# EAGLE library part SD_CARD_HOLDER (library SD_Card_Holder)
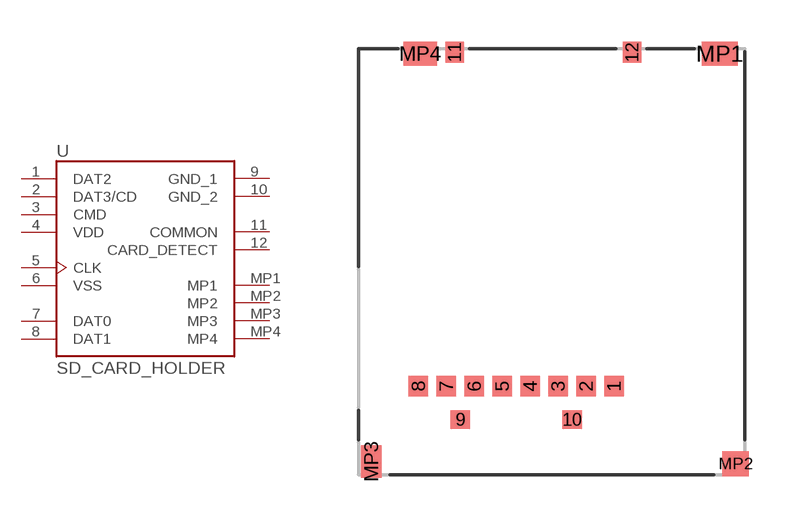
[diagram p0: symbol with the pads of SD_CARD_HOLDER; footprint SD_CARD_HOLDER]

Designator prefix -

## SD_CARD_HOLDER  [SD_CARD_HOLDER]
1  DAT2
2  DAT3/CD
3  CMD
4  VDD  pwr
5  CLK
6  VSS  pwr
7  DAT0
8  DAT1
9  GND_1  pwr
10  GND_2  pwr
11  COMMON
12  CARD_DETECT
MP1  MP1  pas
MP2  MP2
MP3  MP3
MP4  MP4

## Footprint SD_CARD_HOLDER (pad centres in mm)
smd 0.7 x 0.75: 1 3.495,-5.72; 2 2.495,-5.72; 3 1.495,-5.72; 4 0.495,-5.72; 5 -0.505,-5.72; 6 -1.505,-5.72; 7 -2.505,-5.72; 8 -3.505,-5.72
smd 0.7 x 0.65: 9 -2.005,-6.92; 10 1.995,-6.92
smd 0.65 x 0.75: 11 -2.205,6.23; 12 4.145,6.23
smd 1.3 x 0.85: MP1 7.282,6.18
smd 0.95 x 0.9: MP2 7.845,-8.495
smd 0.745 x 1.15: MP3 -5.19,-8.42
smd 1.2 x 0.85: MP4 -3.442,6.18